# EAGLE library part 691810110312 (library Wurth_Connectors_WR-TBL Spring Clamp)
WR-TBL Series 8101 - Screwless Push In 3.5mm pitch - Horizontal cable entry - THR KIND PROPERTIES Pitch 3.5 mm MATERIAL PROPERTIES Insulator Material PA4T Insulator Flammability Rating UL94 V-0 Insulator Color Black Spring Material Stainless Steel Pin Material Brass Pin Plating Tin over Nickel GENERAL INFORMATION Operating Temperature -40 up to +125 °C ELECTRICAL PROPERTIES IR cULus 7 A IR VDE 13.5 A Working Voltage [cULus] 300 V Working Voltage [VDE] 160 V Withstanding Voltage [cULus] 1600 V (AC) Withstanding Voltage [VDE] 1400 V (AC) Contact Resistance [cULus] 20 mΩ Contact Resistance [VDE] 20 mΩ Mechanical Properties Wire Strip Length 8 up to 9 (mm) Wire Properties Solid Wire Section (AWG) 24 to 18 (AWG) Solid Wire Section (Metric) 0.2 to 1 (mm²) Stranded Wire Section (AWG) 22 to 16 (AWG) Stranded Wire Section (Metric) 0.2 to 1.5 (mm²) CERTIFICATION cULus Approval E315414 VDE Approval 40055316 Packaging Properties Packaging Tape and Reel <https://www.we-online.com/components/media/o722796v209%206918101103xx_Multi-parts.jpg> Details see: www.we-online.com/en/components/products/WR-TBL_SERIES_8101_SCREWLESS_PUSH_IN_3_5MM_PITCH_HORIZONTAL_CABLE_ENTRY_THR <www.we-online.com/catalog/WR-TBL_SERIES_8101_SCREWLESS_PUSH_IN_3_5MM_PITCH_HORIZONTAL_CABLE_ENTRY_THR/?utm_source=eagle_model&utm_medium=description_link&utm_campaign=eisos_eagle> Created by Ella Wu 2023-06-13 2023(C) Wurth Elektronik
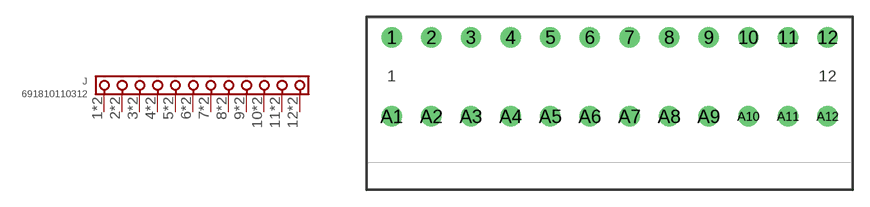
[diagram p187: symbol with the pads of 691810110312; footprint 691810110312]

Designator prefix J

## 691810110312 (DATASHEET-URL: https://www.we-online.com/redexpert/spec/691810110312?ae; IR-UL: 7A; IR-VDE: 13.5A; MOUNT: THR; PART-NUMBER: 691810110312; PINS: 12; PITCH: 3.5mm; TYPE: Horizontal Cable Entry; VALUE: 691810110312; WIRE: 22 to 16 (AWG) 0.2 to 1.5 (mm²); WORKING-VOLTAGE-UL: 300V; WORKING-VOLTAGE-VDE: 160V)  [691810110312]
1  1  pas
2  2  pas
3  3  pas
4  4  pas
5  5  pas
6  6  pas
7  7  pas
8  8  pas
9  9  pas
10  10  pas
11  11  pas
12  12  pas
A1  1  pas
A2  2  pas
A3  3  pas
A4  4  pas
A5  5  pas
A6  6  pas
A7  7  pas
A8  8  pas
A9  9  pas
A10  10  pas
A11  11  pas
A12  12  pas

## Footprint 691810110312 (pad centres in mm)
WR-TBL Series 8101 - Screwless Push In 3.5mm pitch - Horizontal cable entry - THR Pitch 3.5mm, THR, 12pins
drill 1.2: 1 -19.25,3.5; 2 -15.75,3.5; 3 -12.25,3.5; 4 -8.75,3.5; 5 -5.25,3.5; 6 -1.75,3.5; 7 1.75,3.5; 8 5.25,3.5; 9 8.75,3.5; 10 12.25,3.5; 11 15.75,3.5; 12 19.25,3.5; A1 -19.25,-3.5; A2 -15.75,-3.5; A3 -12.25,-3.5; A4 -8.75,-3.5; A5 -5.25,-3.5; A6 -1.75,-3.5; A7 1.75,-3.5; A8 5.25,-3.5; A9 8.75,-3.5; A10 12.25,-3.5; A11 15.75,-3.5; A12 19.25,-3.5